# Altium footprint library SON.PcbLib: 52 footprints (part 2 of 4)
Each footprint in its own frame and in the unit in brackets; x right, y up, seen from the top. Pads: shape width x height; smd on the part's side, far side on the other; paste and mask are expansions set on the pad; w line width, h text height; cw(c..) or ccw(c..) is an arc to the next point about the centre after c.
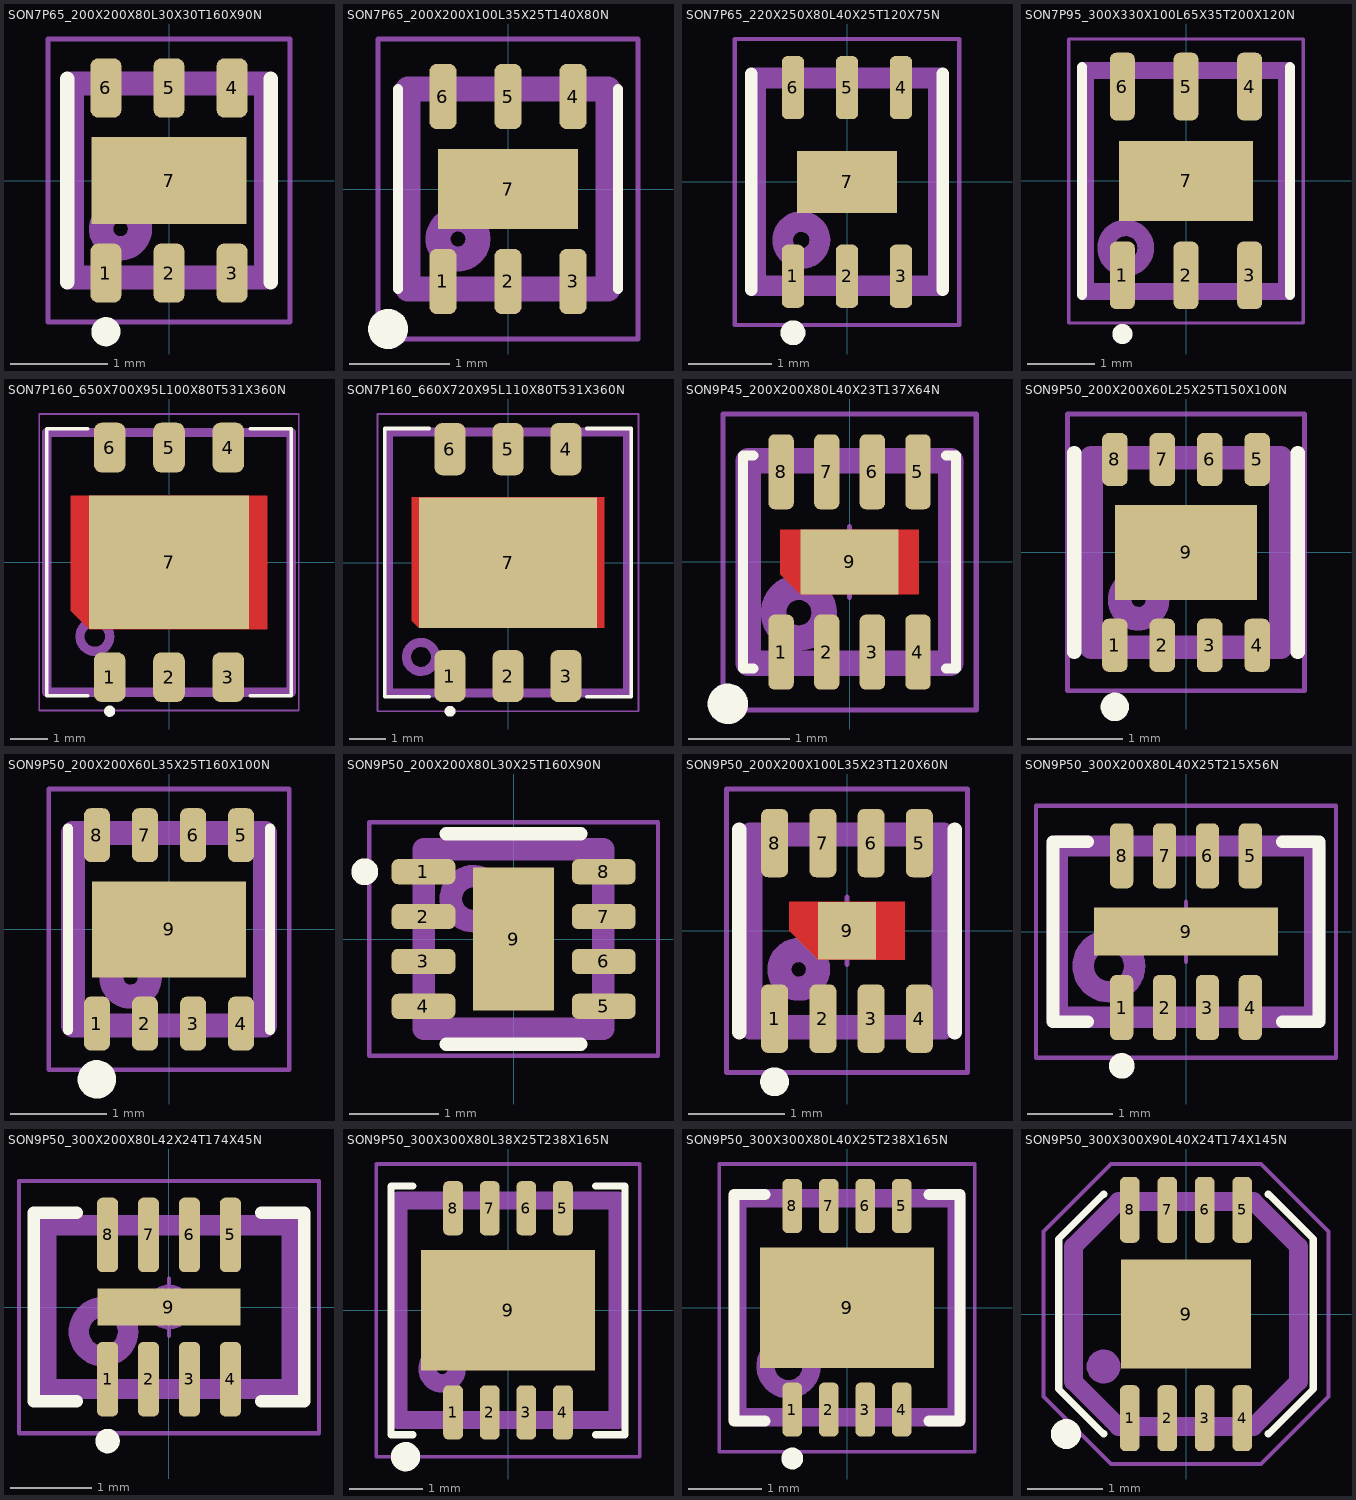
[diagram p1: the footprints below, top view; thin cyan lines are the x and y axes]

## SON7P65_200X200X80L30X30T160X90N [mm] "Small Outline No-Lead (SON with Tab), 0.65 mm pitch; 6 pin, 2.00 mm L X 2.00 mm W X 0.80 mm H body"
height 0.8
pads (7):
  rrect50% 0.32x0.61 smd: 1(-0.65,-0.955) 2(0,-0.955) 3(0.65,-0.955) 4(0.65,0.955) 5(0,0.955) 6(-0.65,0.955)
  rect 1.6x0.9 smd: 7(0,0)
Top Overlay:
  circle w0.15: c-0.65,-1.56 r0.075
  lines w0.15: -1.05,-1.05 -1.05,1.05 ; 1.05,-1.05 1.05,1.05
Top Assembly:
  circle w0.25: c-0.5,-0.5 r0.2
  lines w0.25: -1,-1 1,-1 1,1 -1,1 -1,-1
  text ".Designator" at -3.378,1.461 h1.5
Top Courtyard:
  circle w0.05: c0,0 r0.25
  lines w0.05: -0.35,0 0.35,0 ; 0,-0.35 0,0.35 ; -1.25,-1.46 1.25,-1.46 1.25,1.46 -1.25,1.46 -1.25,-1.46
3D body "SON7P65_200X200X80L30X30T160X90.STEP": height 0.8, standoff 0, extent -1,-1.05 1,1.05

## SON7P65_200X200X100L35X25T140X80N [mm] "Small Outline No-Lead (SON with Tab), 0.65 mm pitch; 6 pin, 2.00 mm L X 2.00 mm W X 1.00 mm H body"
height 1
pads (7):
  rrect52% 0.27x0.65 smd: 1(-0.65,-0.925) 2(0,-0.925) 3(0.65,-0.925) 4(0.65,0.925) 5(0,0.925) 6(-0.65,0.925)
  rect 1.4x0.8 smd: 7(0,0)
Top Overlay:
  circle w0.2: c-1.2,-1.4 r0.1
  lines w0.1: -1.1,-1 -1.1,1 ; 1.1,-1 1.1,1
Top Assembly:
  circle w0.25: c-0.5,-0.5 r0.2
  lines w0.25: -1,-1 -1,1 1,1 1,-1 -1,-1
  text ".Designator" at -1.8,1.5 h1.5
Top Courtyard:
  circle w0.05: c0,0 r0.25
  lines w0.05: -0.35,0 0.35,0 ; 0,-0.35 0,0.35 ; -1.3,-1.5 -1.3,1.5 1.3,1.5 1.3,-1.5 -1.3,-1.5
3D body "SON7P65_200X200X100L35X25T140X80.STEP": height 1, standoff 0, extent -1,-1.05 1,1.05

## SON7P65_220X250X80L40X25T120X75N [mm] "Small Outline No-Lead (SON with Tab), 0.65 mm pitch; 6 pin, 2.20 mm L X 2.50 mm W X 0.80 mm H body"
height 0.8
pads (7):
  rrect52% 0.27x0.76 smd: 1(-0.65,-1.135) 2(0,-1.135) 3(0.65,-1.135) 4(0.65,1.135) 5(0,1.135) 6(-0.65,1.135)
  rect 1.2x0.75 smd: 7(0,0)
Top Overlay:
  circle w0.15: c-0.65,-1.815 r0.075
  lines w0.15: -1.15,-1.3 -1.15,1.3 ; 1.15,-1.3 1.15,1.3
Top Assembly:
  circle w0.25: c-0.55,-0.7 r0.224
  lines w0.25: -1.1,-1.25 1.1,-1.25 1.1,1.25 -1.1,1.25 -1.1,-1.25
  text ".Designator" at -3.378,-0.039 h1.5
Top Courtyard:
  circle w0.05: c0,0 r0.25
  lines w0.05: -0.35,0 0.35,0 ; 0,-0.35 0,0.35 ; -1.35,-1.72 1.35,-1.72 1.35,1.72 -1.35,1.72 -1.35,-1.72
3D body "SON7P65_220X250X80L40X25T120X75.STEP": height 0.8, standoff 0, extent -1.1,-1.3 1.1,1.3

## SON7P95_300X330X100L65X35T200X120N [mm] "Small Outline No-Lead (SON with Tab), 0.95 mm pitch; 6 pin, 3.00 mm L X 3.30 mm W X 1.00 mm H body"
height 1
pads (7):
  rrect49% 0.37x1.01 smd: 1(-0.95,-1.41) 2(0,-1.41) 3(0.95,-1.41) 4(0.95,1.41) 5(0,1.41) 6(-0.95,1.41)
  rect 2x1.2 smd paste-2: 7(0,0)
Top Overlay:
  circle w0.15: c-0.95,-2.285 r0.075
  lines w0.15: -1.55,-1.7 -1.55,1.7 ; 1.55,-1.7 1.55,1.7
Top Paste:
  region: -0.09,-0.425 -0.91,-0.425 -0.91,0.425 -0.09,0.425
  region: 0.91,-0.425 0.09,-0.425 0.09,0.425 0.91,0.425
Top Assembly:
  circle w0.25: c-0.9,-1 r0.3
  lines w0.25: -1.5,-1.65 1.5,-1.65 1.5,1.65 -1.5,1.65 -1.5,-1.65
  text ".Designator" at -3.378,-0.339 h1.5
Top Courtyard:
  circle w0.05: c0,0 r0.25
  lines w0.05: -0.35,0 0.35,0 ; 0,-0.35 0,0.35 ; -1.75,-2.12 1.75,-2.12 1.75,2.12 -1.75,2.12 -1.75,-2.12
3D body "SON7P95_300X330X100L65X35T200X120.STEP": height 1, standoff 0, extent -1.5,-1.7 1.5,1.7

## SON7P160_650X700X95L100X80T531X360N [mm] "Small Outline No-Lead (SON with Tab), 1.60 mm pitch; 6 pin, 6.50 mm L X 7.00 mm W X 0.95 mm H body"
height 0.95
pads (7):
  rrect49% 0.85x1.34 smd: 1(-1.6,-3.095) 2(0,-3.095) 3(1.6,-3.095) 4(1.6,3.095) 5(0,3.095) 6(-1.6,3.095)
  rect 4.31x3.6 smd paste-4.31 mask-4.31: 7(0,0)
Top Layer:
  region: 2.655,-1.8 -2.155,-1.8 -2.655,-1.3 -2.655,1.8 2.655,1.8
Top Overlay:
  circle w0.15: c-1.6,-4.015 r0.075
  lines w0.1: -2.2,-3.6 -3.3,-3.6 -3.3,3.6 -2.2,3.6 ; 2.2,-3.6 3.3,-3.6 3.3,3.6 2.2,3.6
Top Paste:
  region: 2.34,-1.49 0.31,-1.49 0.31,-0.31 2.34,-0.31
  region: 2.34,0.31 0.31,0.31 0.31,1.49 2.34,1.49
  region: -0.31,-1.49 -2.34,-1.49 -2.34,-0.31 -0.31,-0.31
  region: -0.31,0.31 -2.34,0.31 -2.34,1.49 -0.31,1.49
Top Solder:
  region: 2.655,-1.8 -2.155,-1.8 -2.655,-1.3 -2.655,1.8 2.655,1.8
Top Assembly:
  circle w0.25: c-2,-2 r0.4
  lines w0.25: -3.3,-3.5 -3.3,3.5 3.3,3.5 3.3,-3.5 -3.3,-3.5
  text ".Designator" at -3,-0.2 h1.5
Top Courtyard:
  circle w0.05: c0,0 r0.25
  lines w0.05: -0.35,0 0.35,0 ; 0,-0.35 0,0.35 ; -3.5,-4 -3.5,4 3.5,4 3.5,-4 -3.5,-4
3D body "SON7P160_650X700X95L100X80T531X360.STEP": height 0.95, standoff 0, extent -3.25,-3.55 3.25,3.55

## SON7P160_660X720X95L110X80T531X360N [mm] "Small Outline No-Lead (SON with Tab), 1.60 mm pitch; 6 pin, 6.60 mm L X 7.20 mm W X 0.95 mm H body"
height 0.95
pads (7):
  rrect49% 0.85x1.44 smd: 1(-1.6,-3.13) 2(0,-3.13) 3(1.6,-3.13) 4(1.6,3.13) 5(0,3.13) 6(-1.6,3.13)
  rect 4.91x3.6 smd paste-4.91 mask-4.91: 7(0,0)
Top Layer:
  region: 2.655,-1.8 -2.455,-1.8 -2.655,-1.6 -2.655,1.8 2.655,1.8
Top Overlay:
  circle w0.15: c-1.6,-4.1 r0.075
  lines w0.1: -2.175,-3.7 -3.4,-3.7 -3.4,3.7 -2.175,3.7 ; 2.175,-3.7 3.4,-3.7 3.4,3.7 2.175,3.7
Top Paste:
  region: 2.34,-1.49 0.31,-1.49 0.31,-0.31 2.34,-0.31
  region: 2.34,0.31 0.31,0.31 0.31,1.49 2.34,1.49
  region: -0.31,-1.49 -2.34,-1.49 -2.34,-0.31 -0.31,-0.31
  region: -0.31,0.31 -2.34,0.31 -2.34,1.49 -0.31,1.49
Top Solder:
  region: 2.655,-1.8 -2.455,-1.8 -2.655,-1.6 -2.655,1.8 2.655,1.8
Top Assembly:
  circle w0.25: c-2.4,-2.6 r0.4
  lines w0.25: -3.3,-3.6 -3.3,3.6 3.3,3.6 3.3,-3.6 -3.3,-3.6
  text ".Designator" at -2.7,-0.3 h1.5
Top Courtyard:
  circle w0.05: c0,0 r0.25
  lines w0.05: -0.35,0 0.35,0 ; 0,-0.35 0,0.35 ; -3.6,-4.1 -3.6,4.1 3.6,4.1 3.6,-4.1 -3.6,-4.1
3D body "SON7P160_660X720X95L110X80T531X360.STEP": height 0.95, standoff 0, extent -3.3,-3.65 3.3,3.65

## SON9P45_200X200X80L40X23T137X64N [mm] "Small Outline No-Lead (SON with Tab), 0.45 mm pitch; 8 pin, 2.00 mm L X 2.00 mm W X 0.80 mm H body"
height 0.8
pads (9):
  rrect48% 0.25x0.74 smd: 1(-0.675,-0.89) 2(-0.225,-0.89) 3(0.225,-0.89) 4(0.675,-0.89) 5(0.675,0.89) 6(0.225,0.89) 7(-0.225,0.89) 8(-0.675,0.89)
  rect 0.97x0.64 smd paste-0.97 mask-0.97: 9(0,0)
Top Layer:
  region: 0.685,-0.32 -0.485,-0.32 -0.685,-0.12 -0.685,0.32 0.685,0.32
Top Overlay:
  circle w0.2: c-1.2,-1.4 r0.1
  lines w0.1: -0.95,-1.05 -1.05,-1.05 -1.05,1.05 -0.95,1.05 ; 0.95,-1.05 1.05,-1.05 1.05,1.05 0.95,1.05
Top Paste:
  region: 0.685,-0.32 -0.485,-0.32 -0.685,-0.12 -0.685,0.32 0.685,0.32
Top Solder:
  region: 0.685,-0.32 -0.485,-0.32 -0.685,-0.12 -0.685,0.32 0.685,0.32
Top Assembly:
  circle w0.25: c-0.5,-0.5 r0.25
  lines w0.25: -1,-1 1,-1 1,1 -1,1 -1,-1
  text ".Designator" at -1.7,1.4 h1.5
Top Courtyard:
  circle w0.05: c0,0 r0.25
  lines w0.05: -0.35,0 0.35,0 ; 0,-0.35 0,0.35 ; -1.25,-1.46 1.25,-1.46 1.25,1.46 -1.25,1.46 -1.25,-1.46
3D body "SON9P45_200X200X80L40X23T137X64.STEP": height 0.8, standoff 0, extent -1,-1.05 1,1.05

## SON9P50_200X200X60L25X25T150X100N [mm] "Small Outline No-Lead (SON with Tab), 0.50 mm pitch; 8 pin, 2.00 mm L X 2.00 mm W X 0.60 mm H body"
height 0.6
pads (9):
  rrect52% 0.27x0.56 smd: 1(-0.75,-0.98) 2(-0.25,-0.98) 3(0.25,-0.98) 4(0.75,-0.98) 5(0.75,0.98) 6(0.25,0.98) 7(-0.25,0.98) 8(-0.75,0.98)
  rect 1.5x1 smd paste-1.5: 9(0,0)
Top Overlay:
  circle w0.15: c-0.75,-1.63 r0.075
  lines w0.15: -1.18,-1.05 -1.18,1.05 ; 1.18,-1.05 1.18,1.05
Top Paste:
  region: -0.075,-0.355 -0.675,-0.355 -0.675,0.355 -0.075,0.355
  region: 0.675,-0.355 0.075,-0.355 0.075,0.355 0.675,0.355
Top Assembly:
  circle w0.25: c-0.5,-0.5 r0.2
  lines w0.25: -1,-1 1,-1 1,1 -1,1 -1,-1
  text ".Designator" at -3.378,1.361 h1.5
Top Courtyard:
  circle w0.05: c0,0 r0.25
  lines w0.05: -0.35,0 0.35,0 ; 0,-0.35 0,0.35 ; -1.25,-1.46 1.25,-1.46 1.25,1.46 -1.25,1.46 -1.25,-1.46
3D body "SON9P50_200X200X60L25X25T150X100.STEP": height 0.6, standoff 0, extent -1,-1.05 1,1.05

## SON9P50_200X200X60L35X25T160X100N [mm] "Small Outline No-Lead (SON with Tab), 0.50 mm pitch; 8 pin, 2.00 mm L X 2.00 mm W X 0.60 mm H body"
height 0.6
pads (9):
  rrect52% 0.27x0.56 smd: 1(-0.75,-0.98) 2(-0.25,-0.98) 3(0.25,-0.98) 4(0.75,-0.98) 5(0.75,0.98) 6(0.25,0.98) 7(-0.25,0.98) 8(-0.75,0.98)
  rect 1.6x1 smd paste-1.6: 9(0,0)
Top Overlay:
  circle w0.2: c-0.75,-1.56 r0.1
  lines w0.1: -1.05,-1.05 -1.05,1.05 ; 1.05,-1.05 1.05,1.05
Top Paste:
  region: 0.68,-0.32 0.06,-0.32 0.06,0.32 0.68,0.32
  region: -0.06,-0.32 -0.68,-0.32 -0.68,0.32 -0.06,0.32
Top Assembly:
  circle w0.25: c-0.4,-0.5 r0.2
  lines w0.25: -1,-1 -1,1 1,1 1,-1 -1,-1
  text ".Designator" at -1.7,1.5 h1.5
Top Courtyard:
  circle w0.05: c0,0 r0.25
  lines w0.05: -0.35,0 0.35,0 ; 0,-0.35 0,0.35 ; -1.25,-1.46 -1.25,1.46 1.25,1.46 1.25,-1.46 -1.25,-1.46
3D body "SON9P50_200X200X60L35X25T160X100.STEP": height 0.6, standoff 0, extent -1,-1.05 1,1.05

## SON9P50_200X200X80L30X25T160X90N [mm] "Small Outline No-Lead (SON with Tab), 0.50 mm pitch; 8 pin, 2.00 mm L X 2.00 mm W X 0.80 mm H body"
height 0.8
pads (9):
  rrect50% 0.71x0.28 smd: 1(-1.005,0.75) 2(-1.005,0.25) 3(-1.005,-0.25) 4(-1.005,-0.75) 5(1.005,-0.75) 6(1.005,-0.25) 7(1.005,0.25) 8(1.005,0.75)
  rect 0.9x1.6 smd: 9(0,0)
Top Overlay:
  circle w0.15: c-1.66,0.75 r0.075
  lines w0.15: -0.75,-1.175 0.75,-1.175 ; -0.75,1.175 0.75,1.175
Top Assembly:
  circle w0.25: c-0.45,0.45 r0.25
  lines w0.25: -1,-1 1,-1 1,1 -1,1 -1,-1
  text ".Designator" at 0,0 h1.5
Top Courtyard:
  circle w0.05: c0,0 r0.25
  lines w0.05: -0.35,0 0.35,0 ; 0,-0.35 0,0.35 ; -1.61,-1.3 1.61,-1.3 1.61,1.3 -1.61,1.3 -1.61,-1.3
3D body "SON9P50_200X200X80L30X25T160X90.STEP": height 0.8, standoff 0, extent -1.05,-1 1.05,1

## SON9P50_200X200X100L35X23T120X60N [mm] "Small Outline No-Lead (SON with Tab), 0.50 mm pitch; 8 pin, 2.00 mm L X 2.00 mm W X 1.00 mm H body"
height 1
pads (9):
  rrect50% 0.28x0.71 smd: 1(-0.75,-0.91) 2(-0.25,-0.91) 3(0.25,-0.91) 4(0.75,-0.91) 5(0.75,0.91) 6(0.25,0.91) 7(-0.25,0.91) 8(-0.75,0.91)
  rect 0.6x0.6 smd paste-0.6 mask-0.6: 9(0,0)
Top Layer:
  region: 0.6,-0.3 -0.3,-0.3 -0.6,0 -0.6,0.3 0.6,0.3
Top Overlay:
  circle w0.15: c-0.75,-1.565 r0.075
  lines w0.15: -1.115,-1.05 -1.115,1.05 ; 1.115,-1.05 1.115,1.05
Top Paste:
  region: 0.6,-0.3 -0.3,-0.3 -0.6,0 -0.6,0.3 0.6,0.3
Top Solder:
  region: 0.6,-0.3 -0.3,-0.3 -0.6,0 -0.6,0.3 0.6,0.3
Top Assembly:
  circle w0.25: c-0.5,-0.4 r0.2
  lines w0.25: -1,-1 -1,1 1,1 1,-1 -1,-1
  text ".Designator" at 0,0 h1.5
Top Courtyard:
  circle w0.05: c0,0 r0.25
  lines w0.05: -0.35,0 0.35,0 ; 0,-0.35 0,0.35 ; -1.25,-1.47 -1.25,1.47 1.25,1.47 1.25,-1.47 -1.25,-1.47
3D body "SON9P50_200X200X100L35X23T120X60.STEP": height 1, standoff 0, extent -1,-1.05 1,1.05

## SON9P50_300X200X80L40X25T215X56N [mm] "Small Outline No-Lead (SON with Tab), 0.50 mm pitch; 8 pin, 3.00 mm L X 2.00 mm W X 0.80 mm H body"
height 0.8
pads (9):
  rrect52% 0.27x0.76 smd: 1(-0.75,-0.885) 2(-0.25,-0.885) 3(0.25,-0.885) 4(0.75,-0.885) 5(0.75,0.885) 6(0.25,0.885) 7(-0.25,0.885) 8(-0.75,0.885)
  rect 2.15x0.56 smd: 9(0,0)
Top Overlay:
  circle w0.15: c-0.75,-1.565 r0.075
  lines w0.15: -1.15,-1.05 -1.55,-1.05 -1.55,1.05 -1.15,1.05 ; 1.125,-1.05 1.55,-1.05 1.55,1.05 1.125,1.05
Top Assembly:
  circle w0.25: c-0.9,-0.4 r0.3
  lines w0.25: -1.5,-1 1.5,-1 1.5,1 -1.5,1 -1.5,-1
  text ".Designator" at -2.578,-0.339 h1.5
Top Courtyard:
  circle w0.05: c0,0 r0.25
  lines w0.05: -0.35,0 0.35,0 ; 0,-0.35 0,0.35 ; -1.75,-1.47 1.75,-1.47 1.75,1.47 -1.75,1.47 -1.75,-1.47
3D body "SON9P50_300X200X80L40X25T215X56.STEP": height 0.8, standoff 0, extent -1.5,-1.05 1.5,1.05

## SON9P50_300X200X80L42X24T174X45N [mm] "Small Outline No-Lead (SON with Tab), 0.50 mm pitch; 8 pin, 3.00 mm L X 2.00 mm W X 0.80 mm H body"
height 0.8
pads (9):
  rrect54% 0.26x0.91 smd: 1(-0.75,-0.88) 2(-0.25,-0.88) 3(0.25,-0.88) 4(0.75,-0.88) 5(0.75,0.88) 6(0.25,0.88) 7(-0.25,0.88) 8(-0.75,0.88)
  rect 1.74x0.45 smd: 9(0,0)
Top Overlay:
  circle w0.15: c-0.75,-1.635 r0.075
  lines w0.15: -1.125,-1.15 -1.65,-1.15 -1.65,1.15 -1.125,1.15 ; 1.125,-1.15 1.65,-1.15 1.65,1.15 1.125,1.15
Top Assembly:
  circle w0.25: c-0.8,-0.3 r0.3
  lines w0.25: -1.5,-1 1.5,-1 1.5,1 -1.5,1 -1.5,-1
  text ".Designator" at -2,1.5 h1.5
Top Courtyard:
  circle w0.05: c0,0 r0.25
  lines w0.05: -0.35,0 0.35,0 ; 0,-0.35 0,0.35 ; -1.83,-1.54 1.83,-1.54 1.83,1.54 -1.83,1.54 -1.83,-1.54
3D body "SON9P50_300X200X80L42X24T174X45.STEP": height 0.8, standoff 0, extent -1.5,-1.05 1.5,1.05

## SON9P50_300X300X80L38X25T238X165N [mm] "Small Outline No-Lead (SON with Tab), 0.50 mm pitch; 8 pin, 3.00 mm L X 3.00 mm W X 0.80 mm H body"
height 0.8
pads (9):
  rrect52% 0.27x0.74 smd: 1(-0.75,-1.395) 2(-0.25,-1.395) 3(0.25,-1.395) 4(0.75,-1.395) 5(0.75,1.395) 6(0.25,1.395) 7(-0.25,1.395) 8(-0.75,1.395)
  rect 2.38x1.65 smd paste-2.38: 9(0,0)
Top Overlay:
  circle w0.2: c-1.4,-2 r0.1
  lines w0.1: -1.3,-1.7 -1.6,-1.7 -1.6,1.7 -1.3,1.7 ; 1.2,-1.7 1.6,-1.7 1.6,1.7 1.2,1.7
Top Paste:
  region: 1.005,-0.635 0.095,-0.635 0.095,-0.095 1.005,-0.095
  region: 1.005,0.095 0.095,0.095 0.095,0.635 1.005,0.635
  region: -0.095,-0.635 -1.005,-0.635 -1.005,-0.095 -0.095,-0.095
  region: -0.095,0.095 -1.005,0.095 -1.005,0.635 -0.095,0.635
Top Assembly:
  circle w0.25: c-0.9,-0.8 r0.2
  lines w0.25: -1.5,-1.5 -1.5,1.5 1.5,1.5 1.5,-1.5 -1.5,-1.5
  text ".Designator" at -1.3,-0.2 h1.5
Top Courtyard:
  circle w0.05: c0,0 r0.25
  lines w0.05: -0.35,0 0.35,0 ; 0,-0.35 0,0.35 ; -1.8,-2 -1.8,2 1.8,2 1.8,-2 -1.8,-2
3D body "SON9P50_300X300X80L38X25T238X165.STEP": height 0.8, standoff 0, extent -1.5,-1.55 1.5,1.55

## SON9P50_300X300X80L40X25T238X165N [mm] "Small Outline No-Lead (SON with Tab), 0.50 mm pitch; 8 pin, 3.00 mm L X 3.00 mm W X 0.80 mm H body"
height 0.8
pads (9):
  rrect52% 0.27x0.74 smd: 1(-0.75,-1.395) 2(-0.25,-1.395) 3(0.25,-1.395) 4(0.75,-1.395) 5(0.75,1.395) 6(0.25,1.395) 7(-0.25,1.395) 8(-0.75,1.395)
  rect 2.38x1.65 smd paste-2.38: 9(0,0)
Top Overlay:
  circle w0.15: c-0.75,-2.065 r0.075
  lines w0.15: -1.125,-1.55 -1.55,-1.55 -1.55,1.55 -1.125,1.55 ; 1.125,-1.55 1.55,-1.55 1.55,1.55 1.125,1.55
Top Paste:
  region: 1.07,-0.7 0.12,-0.7 0.12,-0.12 1.07,-0.12
  region: 1.07,0.12 0.12,0.12 0.12,0.7 1.07,0.7
  region: -0.12,-0.7 -1.07,-0.7 -1.07,-0.12 -0.12,-0.12
  region: -0.12,0.12 -1.07,0.12 -1.07,0.7 -0.12,0.7
Top Assembly:
  circle w0.25: c-0.8,-0.8 r0.316
  lines w0.25: -1.5,-1.5 -1.5,1.5 1.5,1.5 1.5,-1.5 -1.5,-1.5
  text ".Designator" at -3.378,-0.339 h1.5
Top Courtyard:
  circle w0.05: c0,0 r0.25
  lines w0.05: -0.35,0 0.35,0 ; 0,-0.35 0,0.35 ; -1.75,-1.97 -1.75,1.97 1.75,1.97 1.75,-1.97 -1.75,-1.97
3D body "SON9P50_300X300X80L40X25T238X165.STEP": height 0.8, standoff 0, extent -1.5,-1.55 1.5,1.55

## SON9P50_300X300X90L40X24T174X145N [mm] "Small Outline No-Lead (SON with Tab), 0.50 mm pitch; 8 pin, 3.00 mm L X 3.00 mm W X 0.90 mm H body"
height 0.9
pads (9):
  rrect54% 0.26x0.88 smd: 1(-0.75,-1.39) 2(-0.25,-1.39) 3(0.25,-1.39) 4(0.75,-1.39) 5(0.75,1.39) 6(0.25,1.39) 7(-0.25,1.39) 8(-0.75,1.39)
  rect 1.74x1.45 smd paste-1.74: 9(0,0)
Top Overlay:
  circle w0.2: c-1.6,-1.6 r0.1
  lines w0.1: -1.1,-1.6 -1.7,-1 -1.7,1 -1.1,1.6 ; 1.1,-1.6 1.7,-1 1.7,1 1.1,1.6
Top Paste:
  region: -0.075,-0.495 -0.715,-0.495 -0.715,0.495 -0.075,0.495
  region: 0.715,-0.495 0.075,-0.495 0.075,0.495 0.715,0.495
Top Assembly:
  circle w0.25: c-1.1,-0.7 r0.1
  lines w0.25: -1.5,-0.9 -0.9,-1.5 0.9,-1.5 1.5,-0.9 1.5,0.9 0.9,1.5 -0.9,1.5 -1.5,0.9 -1.5,-0.9
  text ".Designator" at -2.1,2 h1.5
Top Courtyard:
  circle w0.05: c0,0 r0.25
  lines w0.05: -0.35,0 0.35,0 ; 0,-0.35 0,0.35 ; -1.9,-1.1 -1,-2 1,-2 1.9,-1.1 1.9,1.1 1,2 -1,2 -1.9,1.1 -1.9,-1.1
3D body "ADL5521.STEP": height 0.95, standoff 0, extent -1.5,-1.55 1.5,1.55